# EAGLE library part AD8045 (library Lasser)
Analog Devices AD8045 High Speed Op Amp 1350V/µs slew rate
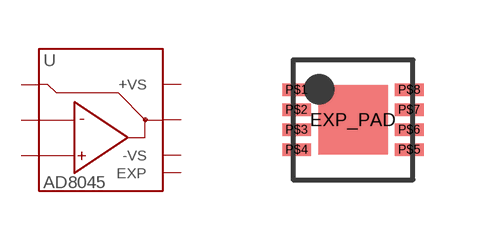
[diagram p17: symbol with the pads of LFCSP_VD; footprint LFCSP_VD]

Designator prefix -

## AD8045  [LFCSP_VD]
EXP_PAD  EXP
P$2  FEEDBACK
P$3  IN-
P$4  +IN
P$5  -VS
P$7  OUTPUT
P$8  +VS

## Footprint LFCSP_VD (pad centres in mm)
LFCSP_VC (CP - 8 - 2) 3 x 3 mm Footprint nach Analog Devices
smd 1.74 x 1.74: EXP_PAD 0,0
smd 0.72 x 0.32: P$1 -1.41,0.75; P$2 -1.41,0.25; P$3 -1.41,-0.25; P$4 -1.41,-0.75; P$5 1.41,-0.75; P$6 1.41,-0.25; P$7 1.41,0.25; P$8 1.41,0.75